# EAGLE library part HY15P03S (library TRANSISTORS)
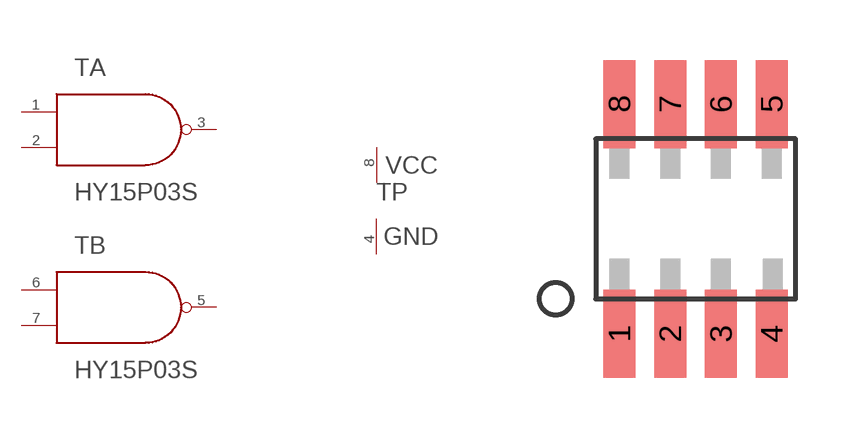
[diagram p0: symbol with the pads of SOP-8; footprint SOP-8]

Designator prefix T; gates A=NAND B=NAND P=PWR-PIN

## HY15P03S  [SOP-8]
1  A:IN1  in
2  A:IN2  in
3  A:OUT  out
4  P:GND  pwr
5  B:OUT  out
6  B:IN1  in
7  B:IN2  in
8  P:VCC  pwr

## Footprint SOP-8 (pad centres in mm)
smd 0.8 x 2.2: 1 -1.905,-2.87; 2 -0.635,-2.87; 3 0.635,-2.87; 4 1.905,-2.87; 5 1.905,2.87; 6 0.635,2.87; 7 -0.635,2.87; 8 -1.905,2.87